# EAGLE library part AMUX_16P (library Keyboard Analog)
Check availability <https://pricing.snapeda.com/parts/CD74HC4067M96/Texas%20Instruments/view-part?ref=eda>
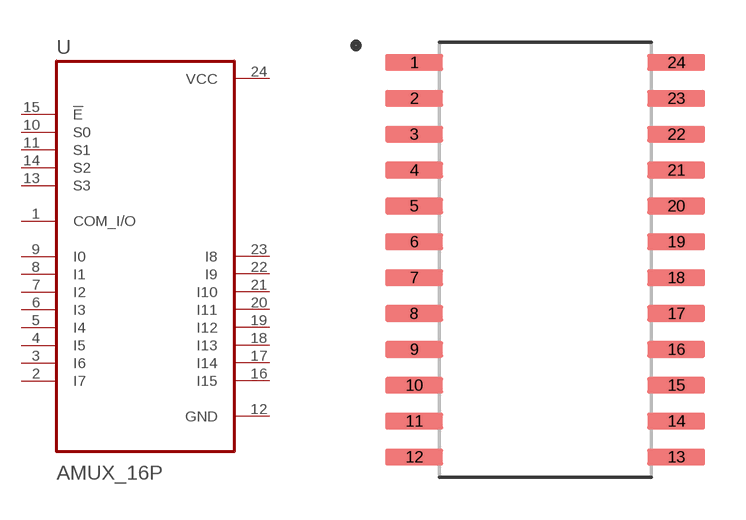
[diagram p3: symbol with the pads of SOIC127P1030X265-24N; footprint SOIC127P1030X265-24N]

Designator prefix U

## AMUX_16P (AVAILABILITY: In Stock; CHECK_PRICES: https://www.snapeda.com/parts/CD74HC4067M96/Texas+Instruments/view-part/?ref=eda; DESCRIPTION: 5-V, 16:1, 1-channel analog multiplexer; MF: Texas Instruments; MP: CD74HC4067M96; PACKAGE: SOIC-24 Texas Instruments; PRICE: None; SNAPEDA_LINK: https://www.snapeda.com/parts/CD74HC4067M96/Texas+Instruments/view-part/?ref=snap)  [SOIC127P1030X265-24N]
1  COM_I/O
2  I7
3  I6
4  I5
5  I4
6  I3
7  I2
8  I1
9  I0
10  S0  in
11  S1  in
12  GND  pwr
13  S3  in
14  S2  in
15  !E  in
16  I15
17  I14
18  I13
19  I12
20  I11
21  I10
22  I9
23  I8
24  VCC  pwr

## Footprint SOIC127P1030X265-24N (pad centres in mm)
smd 2.06 x 0.6: 1 -4.64,6.985; 2 -4.64,5.715; 3 -4.64,4.445; 4 -4.64,3.175; 5 -4.64,1.905; 6 -4.64,0.635; 7 -4.64,-0.635; 8 -4.64,-1.905; 9 -4.64,-3.175; 10 -4.64,-4.445; 11 -4.64,-5.715; 12 -4.64,-6.985; 13 4.64,-6.985; 14 4.64,-5.715; 15 4.64,-4.445; 16 4.64,-3.175; 17 4.64,-1.905; 18 4.64,-0.635; 19 4.64,0.635; 20 4.64,1.905; 21 4.64,3.175; 22 4.64,4.445; 23 4.64,5.715; 24 4.64,6.985